# EAGLE library part POGO_PROG (library usb)
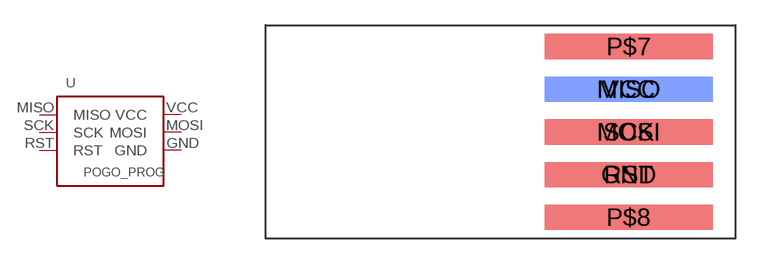
[diagram p23: symbol with the pads of POGO_PROG; footprint POGO_PROG]

Designator prefix -

## POGO_PROG  [POGO_PROG]
GND  GND  pwr
MISO  MISO
MOSI  MOSI
RST  RST
SCK  SCK
VCC  VCC

## Footprint POGO_PROG (pad centres in mm)
smd 10 x 1.5 bottom: GND 3.81,10.16; MOSI 3.81,12.7; VCC 3.81,15.24
smd 10 x 1.5: MISO 3.81,15.24; P$7 3.81,17.78; P$8 3.81,7.62; RST 3.81,10.16; SCK 3.81,12.7